# Altium footprint library EGB220.PcbLib: 4 footprints
Each footprint in its own frame and in the unit in brackets; x right, y up, seen from the top. Pads: shape width x height; smd on the part's side, far side on the other; paste and mask are expansions set on the pad; w line width, h text height; cw(c..) or ccw(c..) is an arc to the next point about the centre after c.
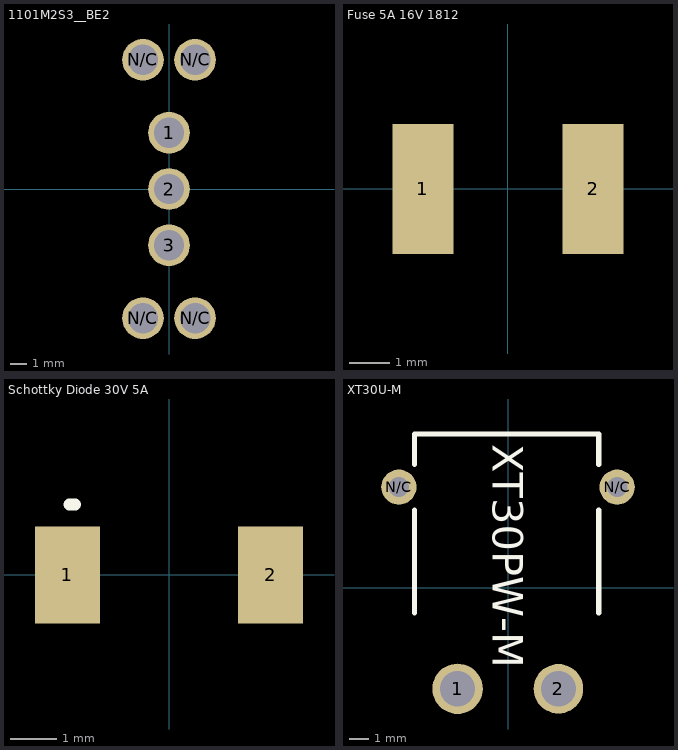
[diagram p0: the footprints below, top view; thin cyan lines are the x and y axes]

## 1101M2S3__BE2 [mil]
pads (7):
  round 100 hole 73: 1(0,135) 2(0,0) 3(0,-135) N/C(-62.5,-310) N/C(-62.5,310) N/C(62.5,-310) N/C(62.5,310)
3D body: height 525, standoff 0, extent -170,-320 170,320

## Fuse 5A 16V 1812 [mm]
height 0.254
pads (2):
  rect 1.5x3.2 smd: 1(-2.1,0) 2(2.1,0)
3D body: height 0.76, standoff 0, extent -2.185,-1.587 2.185,1.587

## Schottky Diode 30V 5A [mm]
height 1.1
pads (2):
  rect 1.4x2.1 smd: 1(-2.2,0) 2(2.2,0)
Top Overlay:
  lines w0.254: -2.159,1.524 -2.032,1.524
3D body: height 0.25, standoff 0, extent -1.9,-1.25 1.9,1.25

## XT30U-M [mil]
height 1968.5
pads (4):
  round 100 hole 70: 1(-100,-200)
  round 98.43 hole 70: 2(100,-200)
  round 70 hole 40: N/C(-216.54,200) N/C(216.54,200)
Top Overlay:
  lines w10: -185,-50 -185,155 ; -185,245 -185,305 180,305 180,245 ; 180,-50 180,155
  text "XT30PW-M" at -30,285 h60
3D body: height 120, standoff 0, extent -150,-250 -50,-100
3D body: height 120, standoff 0, extent 50,-250 150,-100
3D body: height 160, standoff 10, extent -185,-100 180,305